# EAGLE library part HALF_BRIDGE_DRIVER-DUAL (library parts_servo)
Generic dual half bridge driver. This is modeled on the Richtek RT9625A, but is sufficiently generic that it may apply to other parts.
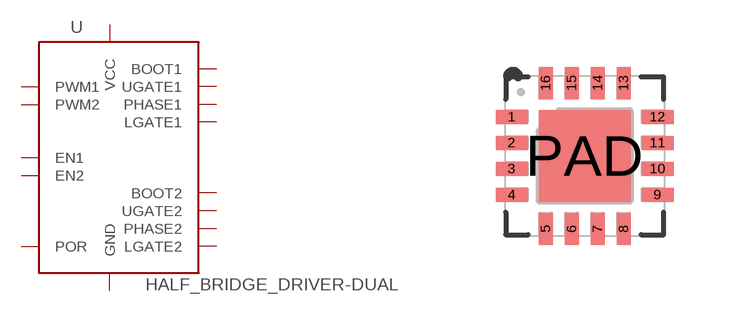
[diagram p1: symbol with the pads of QFN-16(4X4)+EP; footprint QFN-16(4X4)+EP]

Designator prefix U

## HALF_BRIDGE_DRIVER-DUAL-QFN-16(4X4)  [QFN-16(4X4)+EP]
1  BOOT2  out
2  GND  pwr
3  PWM2  in
4  EN2  in
5  EN1  in
6  PWM1  in
7  POR
8  BOOT1  pas
9  UGATE1  out
10  PHASE1  in
11  LGATE1  out
12  VCC  pwr
13  GND  pwr
14  LGATE2  pas
15  PHASE2  in
16  UGATE2  out
PAD  GND  pwr

## Footprint QFN-16(4X4)+EP (pad centres in mm)
QFN 16 (4x4)mm with 2.45 mm(Max) square pad Used by Richtek.
smd 0.8 x 0.35: 1 -1.825,0.975; 2 -1.825,0.325; 3 -1.825,-0.325; 4 -1.825,-0.975; 9 1.825,-0.975; 10 1.825,-0.325; 11 1.825,0.325; 12 1.825,0.975
smd 0.35 x 0.8: 5 -0.975,-1.825; 6 -0.325,-1.825; 7 0.325,-1.825; 8 0.975,-1.825; 13 0.975,1.825; 14 0.325,1.825; 15 -0.325,1.825; 16 -0.975,1.825
smd 2.3 x 2.3: PAD 0,0